# Altium schematic symbol library SCH - OPTOISOLATORS - OPTOISOLATOR.SCHLIB: 1 symbol
Pins are listed as number, name and electrical type; pins without a type are passive.

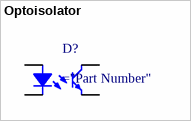
[diagram p0: symbol Optoisolator]

## Optoisolator
designator D?
pins: 1, 2, 3, 4